# Altium footprint library Nuio_Left_Keyboard_Rev_H.PcbLib: 39 footprints (part 3 of 3)
Each footprint in its own frame and in the unit in brackets; x right, y up, seen from the top. Pads: shape width x height; smd on the part's side, far side on the other; paste and mask are expansions set on the pad; w line width, h text height; cw(c..) or ccw(c..) is an arc to the next point about the centre after c.
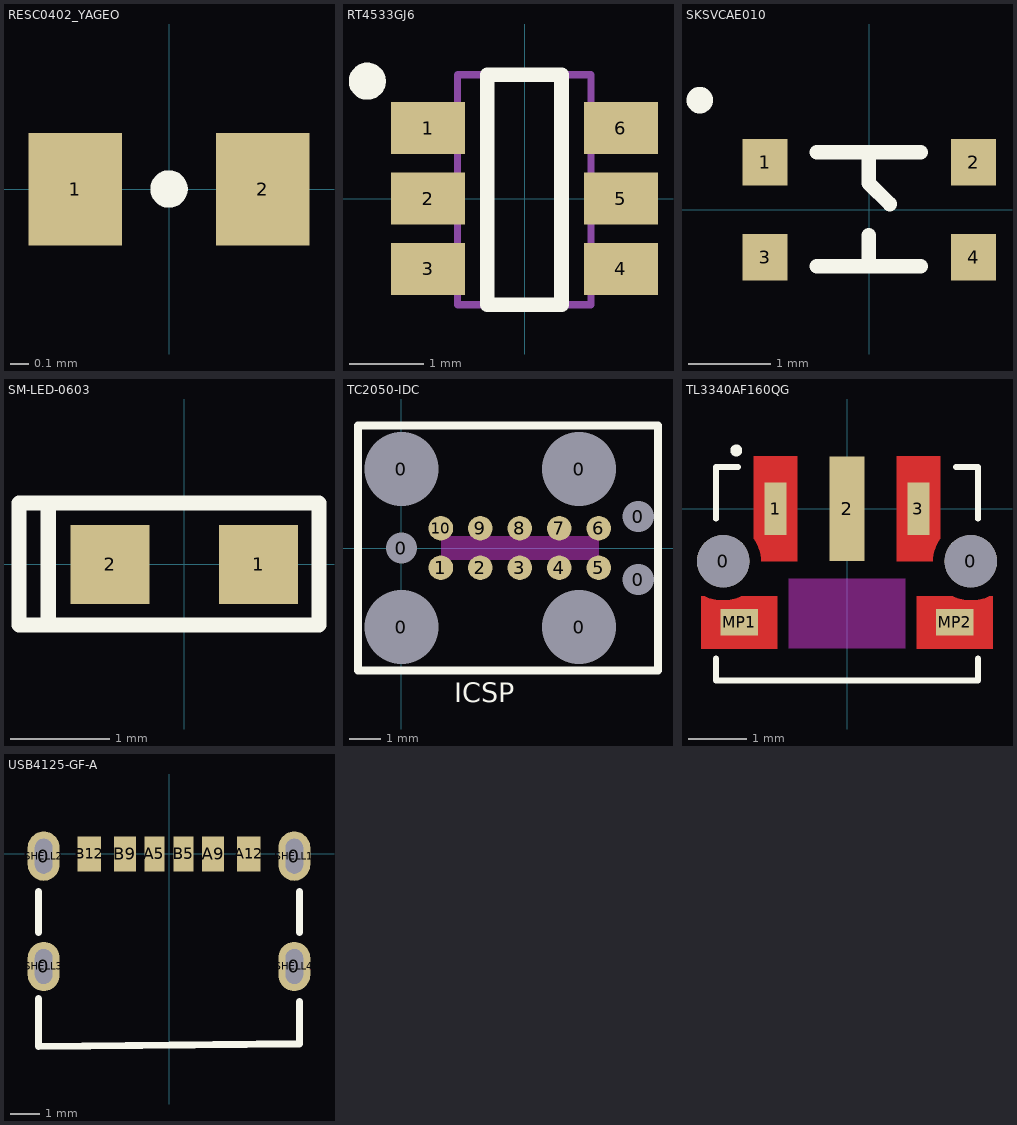
[diagram p2: the footprints below, top view; thin cyan lines are the x and y axes]

## RESC0402_YAGEO [mm] "Chip Resistor, Body 1.0x0.5mm, IPC High Density"
height 0.4
pads (2):
  rect 0.5x0.6 smd mask+0.05: 1(-0.5,0) 2(0.5,0)
Top Overlay:
  circle w0.1: c0,0 r0.05
3D body: height 0.4, standoff 0, extent -0.525,-0.275 -0.3,0.275
3D body: height 0.4, standoff 0, extent -0.3,-0.275 0.3,0.275
3D body: height 0.4, standoff 0, extent 0.3,-0.275 0.525,0.275

## RT4533GJ6 [mm] "IC LED DRVR RGLTR PWM TSOT23-6"
pads (6):
  rect 1x0.7 smd: 1(-1.3,0.95) 2(-1.3,0) 3(-1.3,-0.95) 4(1.3,-0.95) 5(1.3,0) 6(1.3,0.95)
Top Overlay:
  circle w0.25: c-2.12,1.582 r0.125
  lines w0.2: -0.503,-1.432 0.497,-1.432 0.497,1.668 -0.503,1.668 -0.503,-1.432
Mechanical 13:
  lines w0.1: -0.903,-1.432 -0.903,1.668 0.897,1.668 0.897,-1.432 -0.903,-1.432
3D body "SOT85P280X100-6N.step": height 1, standoff 0, extent -1.545,-1.562 1.455,1.538

## SKSVCAE010 [mm]
pads (4):
  rect 0.55x0.57 smd: 1(-1.275,0.58) 2(1.275,0.58) 3(-1.275,-0.58) 4(1.275,-0.58)
Top Overlay:
  circle w0.254: c-2.072,1.341 r0.035
  lines w0.178: -0.64,-0.69 0.63,-0.69 ; -0.64,0.707 0.63,0.707 ; -0.005,-0.69 -0.005,-0.309 ; -0.005,0.707 -0.005,0.326 0.249,0.072
3D body "DetailedSKSV-1370669.STEP": height 0.5, standoff 0, extent -1.5,-0.95 1.5,0.95

## SM-LED-0603 [mm] "0603 LED"
height 2
pads (2):
  rect 0.8x0.8 smd: 1(0.75,0) 2(-0.75,0)
Top Overlay:
  lines w0.152: -1.375,-0.6 -1.375,0.617 ; -1.67,-0.61 1.36,-0.61 1.36,0.62 -1.67,0.62 -1.67,-0.61
3D body "0603-led.STEP": height 0.67, standoff 0, extent -0.8,-0.357 0.85,0.368

## TC2050-IDC [mm] "Tag-Connect 10-Pin (With Legs)"
pads (17):
  round 2.3 hole 2.375 unplated: 0(0,2.54) 0(0,-2.54) 0(5.715,-2.54) 0(5.715,2.54)
  round 0.9 hole 1 unplated: 0(0,0) 0(7.62,-1.015) 0(7.62,1.015)
  round 0.79 smd paste-0.39: 1(1.27,-0.635) 2(2.54,-0.635) 3(3.81,-0.635) 4(5.08,-0.635) 5(6.35,-0.635) 6(6.35,0.635) 7(5.08,0.635) 8(3.81,0.635) 9(2.54,0.635) 10(1.27,0.635)
Top Overlay:
  lines w0.254: -1.397,-3.937 -1.397,3.937 8.255,3.937 8.255,-3.937 -1.397,-3.937
  text "ICSP" at 1.693,-4.962 h0.64
Keep-Out Layer:
  rectangle: 1.269,-0.381 6.349,0.381

## TL3340AF160QG [mm] "SWITCH TACTILE SPST-NO 0.05A 12V"
pads (7):
  round 0.9 hole 0.9: 0(-2.125,-0.9) 0(2.125,-0.9)
  rect 0.375x0.9 smd: 1(-1.225,0) 3(1.225,0)
  rect 0.6x1.8 smd: 2(0,0)
  rect 0.65x0.45 smd: MP1(-1.85,-1.95) MP2(1.85,-1.95)
Top Layer:
  region: -1.6,-0.515 -1.6,0.9 -0.85,0.9 -0.85,-0.9 -1.473,-0.9 -1.475,-0.848 -1.491,-0.747 -1.523,-0.649 -1.57,-0.557 -1.599,-0.514
  region: 1.6,-0.515 1.6,0.9 0.85,0.9 0.85,-0.9 1.473,-0.9 1.475,-0.848 1.491,-0.747 1.523,-0.649 1.57,-0.557 1.599,-0.514
  region: -2.5,-2.4 -1.2,-2.4 -1.2,-1.5 -1.819,-1.5 -1.893,-1.534 -2.05,-1.573 -2.212,-1.573 -2.369,-1.534 -2.443,-1.499 -2.499,-1.499 -2.5,-1.5
  region: 2.5,-2.4 1.2,-2.4 1.2,-1.5 1.819,-1.5 1.893,-1.534 2.05,-1.573 2.212,-1.573 2.369,-1.534 2.443,-1.499 2.499,-1.499 2.5,-1.5
Top Layer keep-out:
  rectangle: -1,-2.4 1,-1.2
Top Overlay:
  circle w0.1: c-1.9,1 r0.052
  lines w0.1: -2.25,-2.569 -2.25,-2.95 2.25,-2.95 2.25,-2.569 ; -2.25,-0.174 -2.25,0.715 -1.869,0.715 ; 1.869,0.715 2.25,0.715 2.25,-0.174
Top Paste:
  circle w0.152: c-2.125,-0.9 r0.45
  circle w0.152: c2.125,-0.9 r0.45
3D body "TL3340AF160QG.stp": height 3.3, standoff -0.45, extent -2.25,-2.95 2.25,0.715

## USB4125-GF-A [mm] "CONN RCPT TYPE C 6P SMD RA"
pads (14):
  oval 1.1x1.7 on Top Paste: 0(-4.32,-3.88) 0(-4.32,-0.08) 0(4.32,-3.88) 0(4.32,-0.08)
  rect 0.7x1.2 smd: A5(-0.5,0) B5(0.5,0)
  rect 0.76x1.2 smd: A9(1.52,0) B9(-1.52,0)
  rect 0.8x1.2 smd: A12(2.75,0) B12(-2.75,0)
  oval 1.1x1.7 hole 0.6 slot 1.2 at 90 deg: SHELL1(4.32,-0.08) SHELL2(-4.32,-0.08) SHELL3(-4.32,-3.88) SHELL4(4.32,-3.88)
Top Overlay:
  lines w0.254: -4.5,-5 -4.5,-6.639 4.5,-6.539 4.5,-5.1 ; -4.5,-2.7 -4.5,-1.3 ; 4.5,-2.7 4.5,-1.3
3D body "USB4125-GF-A.stp": height 3.26, standoff -1, extent -4.47,-6.5 4.47,0.4